# Altium footprint library SnapEDApcb.PcbLib: 1 footprints
Each footprint in its own frame and in the unit in brackets; x right, y up, seen from the top. Pads: shape width x height; smd on the part's side, far side on the other; paste and mask are expansions set on the pad; w line width, h text height; cw(c..) or ccw(c..) is an arc to the next point about the centre after c.
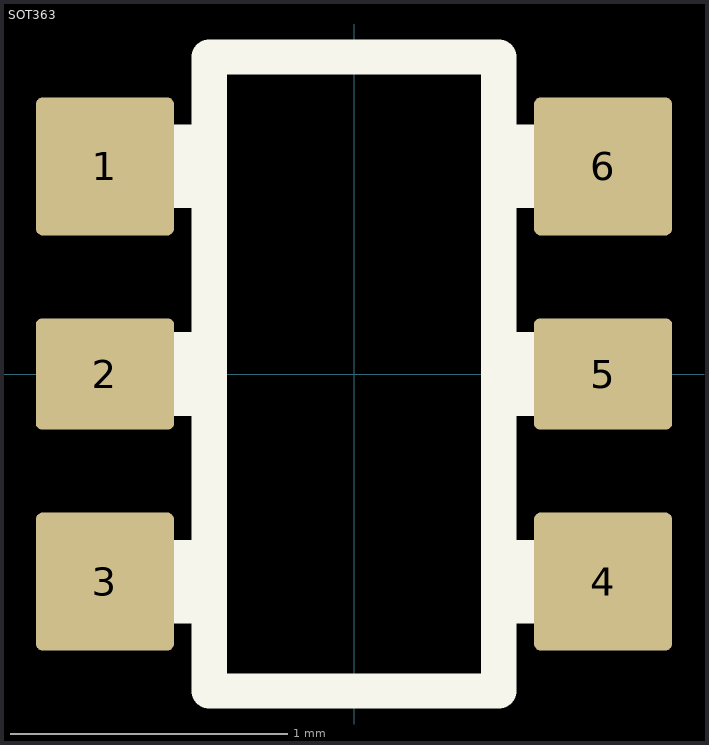
[diagram p0: the footprint, top view; thin cyan lines are the x and y axes]

## SOT363 [mm]
pads (6):
  rrect10% 0.5x0.5 smd: 1(-0.9,0.75) 3(-0.9,-0.75) 4(0.9,-0.75) 6(0.9,0.75)
  rrect10% 0.5x0.4 smd: 2(-0.9,0) 5(0.9,0)
Top Overlay:
  region: -0.55,0.6 -0.95,0.6 -0.95,0.9 -0.55,0.9
  region: -0.55,-0.15 -0.95,-0.15 -0.95,0.15 -0.55,0.15
  region: -0.55,-0.9 -0.95,-0.9 -0.95,-0.6 -0.55,-0.6
  region: 0.95,-0.9 0.55,-0.9 0.55,-0.6 0.95,-0.6
  region: 0.95,-0.15 0.55,-0.15 0.55,0.15 0.95,0.15
  region: 0.95,0.6 0.55,0.6 0.55,0.9 0.95,0.9
  lines w0.127: -0.523,-1.146 0.523,-1.146 0.523,1.146 -0.523,1.146 -0.523,-1.146